# Altium footprint library 44164.PcbLib: 1 footprints
Each footprint in its own frame and in the unit in brackets; x right, y up, seen from the top. Pads: shape width x height; smd on the part's side, far side on the other; paste and mask are expansions set on the pad; w line width, h text height; cw(c..) or ccw(c..) is an arc to the next point about the centre after c.
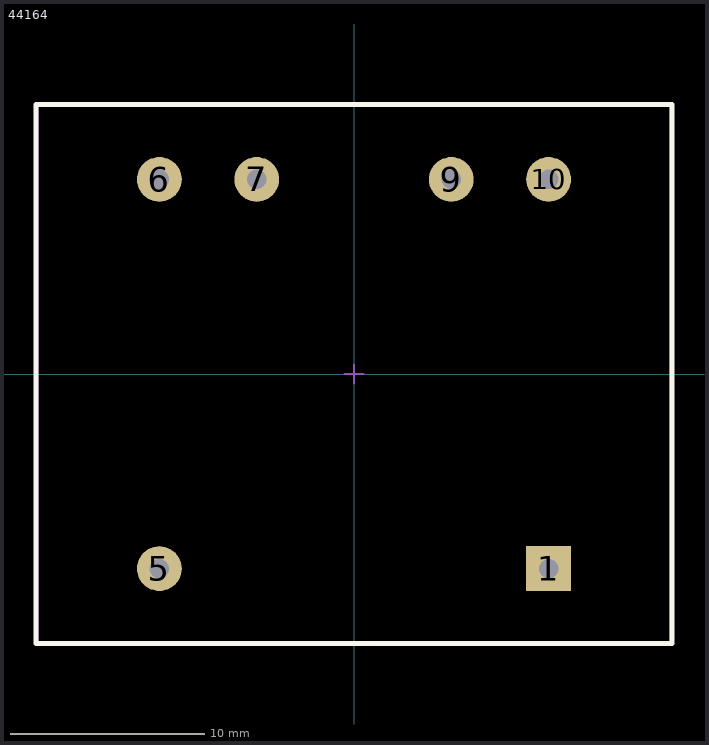
[diagram p0: the footprint, top view; thin cyan lines are the x and y axes]

## 44164 [mm] "44164"
height 29.8
pads (6):
  rect 2.3x2.3 hole 1: 1(10,-10)
  round 2.3 hole 1: 5(-10,-10) 6(-10,10) 7(-5,10) 9(5,10) 10(10,10)
Top Overlay:
  lines w0.25: -16.35,-13.85 -16.35,13.85 16.35,13.85 16.35,-13.85 -16.35,-13.85
Comp Outl Top THT:
  lines w0.15: -16.3,-13.8 -16.3,13.8 16.3,13.8 16.3,-13.8 -16.3,-13.8
Desg Top THT:
  text ".designator" at -3.5,1 h1.5
Value Top THT:
  text ".Comment" at -8.5,-3 h1.5
Courtyard Top:
  lines w0.05: -16.3,-13.8 -16.3,13.8 16.3,13.8 16.3,-13.8 -16.3,-13.8
  lines w0.1: -0.5,0 0.5,0 ; 0,-0.5 0,0.5
3D body: height 29.8, standoff 0, extent -16.3,-13.8 16.3,13.8